# EAGLE library part TEXAS_INSTRUMENTS-IO_EXPANDER-TCA9534DWR (library Module_ICs)
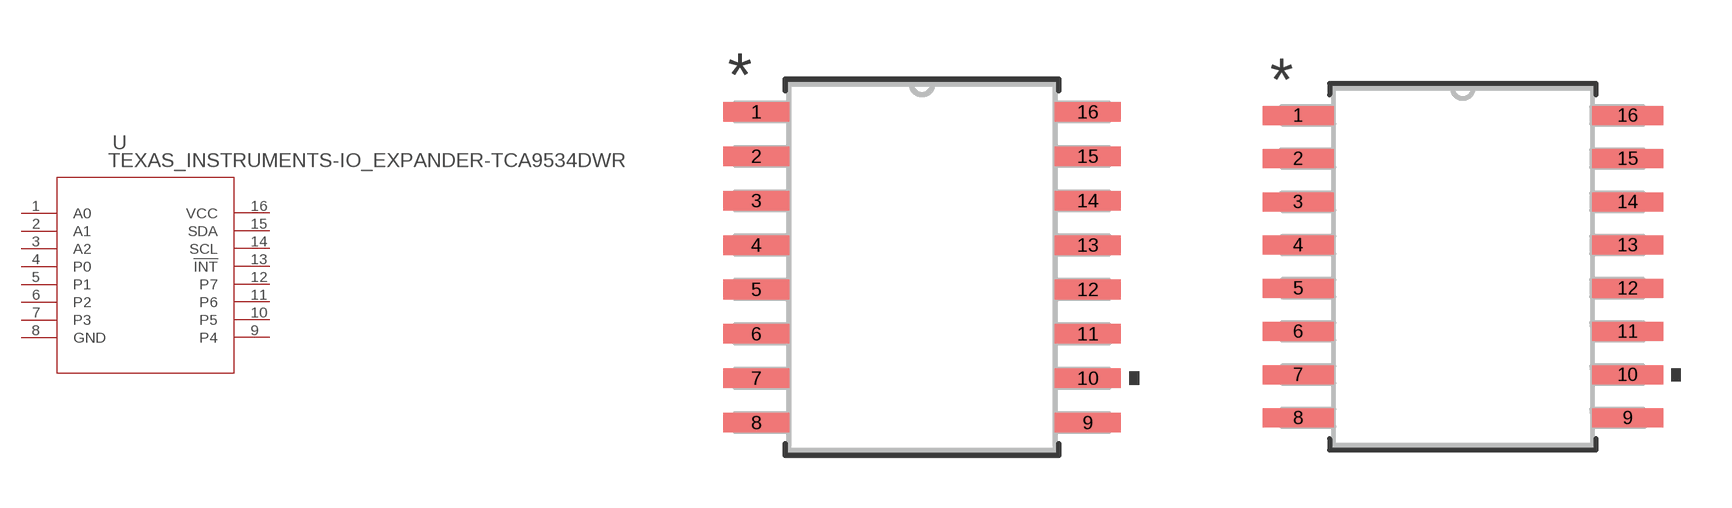
[diagram p58: symbol with the pads of DW16_TEX; footprints DW16_TEX, DW16_TEX-M]

Designator prefix U

## TEXAS_INSTRUMENTS-IO_EXPANDER-TCA9534DWR (BUILT_BY: EMA_UL_Team; COPYRIGHT: Copyright (C) 2018 Accelerated Designs. All rights reserved; MANUFACTURER_PART_NUMBER: TCA9534DWR; SOURCELIBRARY: TI_2019-03-28; VENDOR: Texas Instruments)  [DW16_TEX]
1  A0  in
2  A1  in
3  A2  in
4  P0
5  P1
6  P2
7  P3
8  GND  pwr
9  P4
10  P5
11  P6
12  P7
13  !INT  out
14  SCL  in
15  SDA
16  VCC  pwr

## TEXAS_INSTRUMENTS-IO_EXPANDER-TCA9534DWRDW16_TEX-M (BUILT_BY: EMA_UL_Team; COPYRIGHT: Copyright (C) 2018 Accelerated Designs. All rights reserved; MANUFACTURER_PART_NUMBER: TCA9534DWR; SOURCELIBRARY: TI_2019-03-28; VENDOR: Texas Instruments)  [DW16_TEX-M]
Pads as for DW16_TEX

## TEXAS_INSTRUMENTS-IO_EXPANDER-TCA9534DWRDW16_TEX-L (BUILT_BY: EMA_UL_Team; COPYRIGHT: Copyright (C) 2018 Accelerated Designs. All rights reserved; MANUFACTURER_PART_NUMBER: TCA9534DWR; SOURCELIBRARY: TI_2019-03-28; VENDOR: Texas Instruments)  [DW16_TEX-L]
Pads as for DW16_TEX

## Footprint DW16_TEX (pad centres in mm)
smd 1.88 x 0.559: 1 -4.737,4.445; 2 -4.737,3.175; 3 -4.737,1.905; 4 -4.737,0.635; 5 -4.737,-0.635; 6 -4.737,-1.905; 7 -4.737,-3.175; 8 -4.737,-4.445; 9 4.737,-4.445; 10 4.737,-3.175; 11 4.737,-1.905; 12 4.737,-0.635; 13 4.737,0.635; 14 4.737,1.905; 15 4.737,3.175; 16 4.737,4.445

## Footprint DW16_TEX-M (pad centres in mm)
smd 2.083 x 0.559: 1 -4.839,4.445; 2 -4.839,3.175; 3 -4.839,1.905; 4 -4.839,0.635; 5 -4.839,-0.635; 6 -4.839,-1.905; 7 -4.839,-3.175; 8 -4.839,-4.445; 9 4.839,-4.445; 10 4.839,-3.175; 11 4.839,-1.905; 12 4.839,-0.635; 13 4.839,0.635; 14 4.839,1.905; 15 4.839,3.175; 16 4.839,4.445

## Footprint DW16_TEX-L (pad centres in mm)
smd 1.676 x 0.508: 1 -4.636,4.445; 2 -4.636,3.175; 3 -4.636,1.905; 4 -4.636,0.635; 5 -4.636,-0.635; 6 -4.636,-1.905; 7 -4.636,-3.175; 8 -4.636,-4.445; 9 4.636,-4.445; 10 4.636,-3.175; 11 4.636,-1.905; 12 4.636,-0.635; 13 4.636,0.635; 14 4.636,1.905; 15 4.636,3.175; 16 4.636,4.445